# Altium footprint library Laser.PcbLib: 1 footprints
Each footprint in its own frame and in the unit in brackets; x right, y up, seen from the top. Pads: shape width x height; smd on the part's side, far side on the other; paste and mask are expansions set on the pad; w line width, h text height; cw(c..) or ccw(c..) is an arc to the next point about the centre after c.
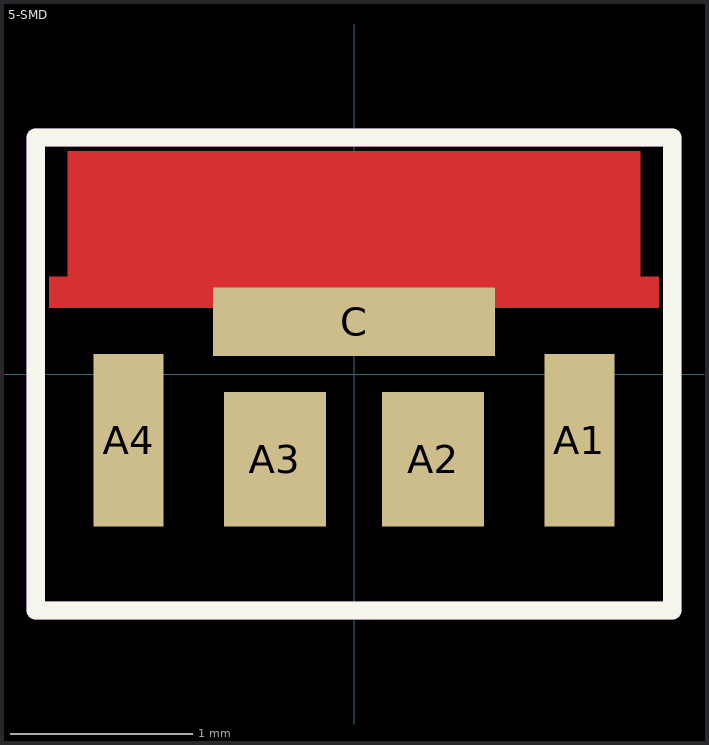
[diagram p0: the footprint, top view; thin cyan lines are the x and y axes]

## 5-SMD [mm]
pads (5):
  rect 0.385x0.95 smd mask+0.05: A1(1.24,-0.365) A4(-1.24,-0.365)
  rect 0.56x0.74 smd mask+0.05: A2(0.435,-0.47) A3(-0.435,-0.47)
  rect 1.55x0.375 smd mask+0.05: C(0,0.288)
Top Layer:
  region: -1.675,0.365 1.675,0.365 1.675,0.535 1.575,0.535 1.575,1.225 -1.575,1.225 -1.575,0.535 -1.675,0.535
Top Overlay:
  lines w0.1: -1.75,-1.3 -1.75,1.3 1.75,1.3 1.75,-1.3 -1.75,-1.3
Border:
  lines w0.1: -1.75,-1.3 -1.75,1.3 1.75,1.3 1.75,-1.3 -1.75,-1.3
3D body "SPL S4L90A_3 A01.stp": height 0.69, standoff 0, extent -1.675,-1.225 1.675,1.225